# Altium footprint library LQFP-80_10x10x04P.PcbLib: 1 footprints
Each footprint in its own frame and in the unit in brackets; x right, y up, seen from the top. Pads: shape width x height; smd on the part's side, far side on the other; paste and mask are expansions set on the pad; w line width, h text height; cw(c..) or ccw(c..) is an arc to the next point about the centre after c.
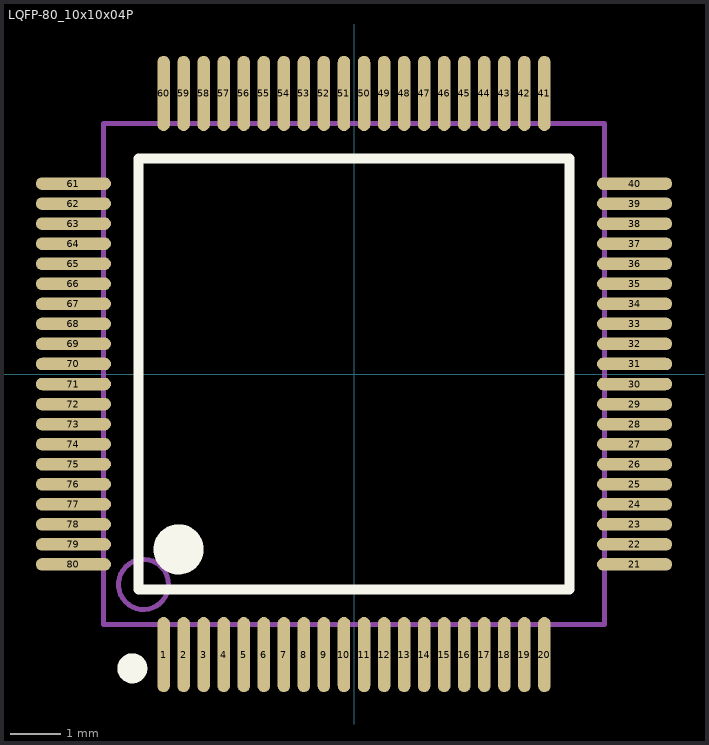
[diagram p0: the footprint, top view; thin cyan lines are the x and y axes]

## LQFP-80_10x10x04P [mm]
pads (80):
  oval 0.25x1.5 smd mask+0.051: 1(-3.8,-5.6) 2(-3.4,-5.6) 3(-3,-5.6) 4(-2.6,-5.6) 5(-2.2,-5.6) 6(-1.8,-5.6) 7(-1.4,-5.6) 8(-1,-5.6) 9(-0.6,-5.6) 10(-0.2,-5.6) 11(0.2,-5.6) 12(0.6,-5.6) 13(1,-5.6) 14(1.4,-5.6) 15(1.8,-5.6) 16(2.2,-5.6) 17(2.6,-5.6) 18(3,-5.6) 19(3.4,-5.6) 20(3.8,-5.6) 41(3.8,5.6) 42(3.4,5.6) 43(3,5.6) 44(2.6,5.6) 45(2.2,5.6) 46(1.8,5.6) 47(1.4,5.6) 48(1,5.6) 49(0.6,5.6) 50(0.2,5.6) 51(-0.2,5.6) 52(-0.6,5.6) 53(-1,5.6) 54(-1.4,5.6) 55(-1.8,5.6) 56(-2.2,5.6) 57(-2.6,5.6) 58(-3,5.6) 59(-3.4,5.6) 60(-3.8,5.6)
  oval 1.5x0.25 smd mask+0.051: 21(5.6,-3.8) 22(5.6,-3.4) 23(5.6,-3) 24(5.6,-2.6) 25(5.6,-2.2) 26(5.6,-1.8) 27(5.6,-1.4) 28(5.6,-1) 29(5.6,-0.6) 30(5.6,-0.2) 31(5.6,0.2) 32(5.6,0.6) 33(5.6,1) 34(5.6,1.4) 35(5.6,1.8) 36(5.6,2.2) 37(5.6,2.6) 38(5.6,3) 39(5.6,3.4) 40(5.6,3.8) 61(-5.6,3.8) 62(-5.6,3.4) 63(-5.6,3) 64(-5.6,2.6) 65(-5.6,2.2) 66(-5.6,1.8) 67(-5.6,1.4) 68(-5.6,1) 69(-5.6,0.6) 70(-5.6,0.2) 71(-5.6,-0.2) 72(-5.6,-0.6) 73(-5.6,-1) 74(-5.6,-1.4) 75(-5.6,-1.8) 76(-5.6,-2.2) 77(-5.6,-2.6) 78(-5.6,-3) 79(-5.6,-3.4) 80(-5.6,-3.8)
Top Overlay:
  circle w0.3: c-4.425,-5.875 r0.15
  circle w0.5: c-3.5,-3.5 r0.25
  lines w0.2: -4.3,-4.3 4.3,-4.3 4.3,4.3 -4.3,4.3 -4.3,-4.3
Mechanical 13:
  circle w0.1: c-4.2,-4.2 r0.5
  lines w0.1: -5,-5 5,-5 5,5 -5,5 -5,-5